# EAGLE library part STS4DNF60L (library 0000 - @rsandor parts)
Dual N-channel Mosfet (60V, 0.045 Ohm, 4A) in SO-8 Package. Datasheet <https://www.st.com/content/ccc/resource/technical/document/datasheet/83/44/9d/d5/71/49/47/a4/CD00001553.pdf/files/CD00001553.pdf/jcr:content/translations/en.CD00001553.pdf>
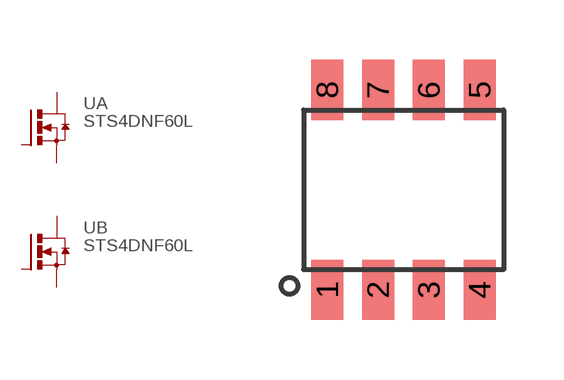
[diagram p7: symbol with the pads of SO-8; footprint SO-8]

Designator prefix -; gates A=HEXFET_N B=HEXFET_N

## STS4DNF60L  [SO-8]
1  A:S  pas
2  A:G  pas
3  B:S  pas
4  B:G  pas
5  B:D  pas
6  B:D  pas
7  A:D  pas
8  A:D  pas

## Footprint SO-8 (pad centres in mm)
smd 0.802 x 1.505: 1 -1.905,-2.5; 2 -0.635,-2.5; 3 0.635,-2.5; 4 1.905,-2.5; 5 1.905,2.5; 6 0.635,2.5; 7 -0.635,2.5; 8 -1.905,2.5